# Altium footprint library JST BM05B-SRSS-TB.PCBLIB: 1 footprints
Each footprint in its own frame and in the unit in brackets; x right, y up, seen from the top. Pads: shape width x height; smd on the part's side, far side on the other; paste and mask are expansions set on the pad; w line width, h text height; cw(c..) or ccw(c..) is an arc to the next point about the centre after c.
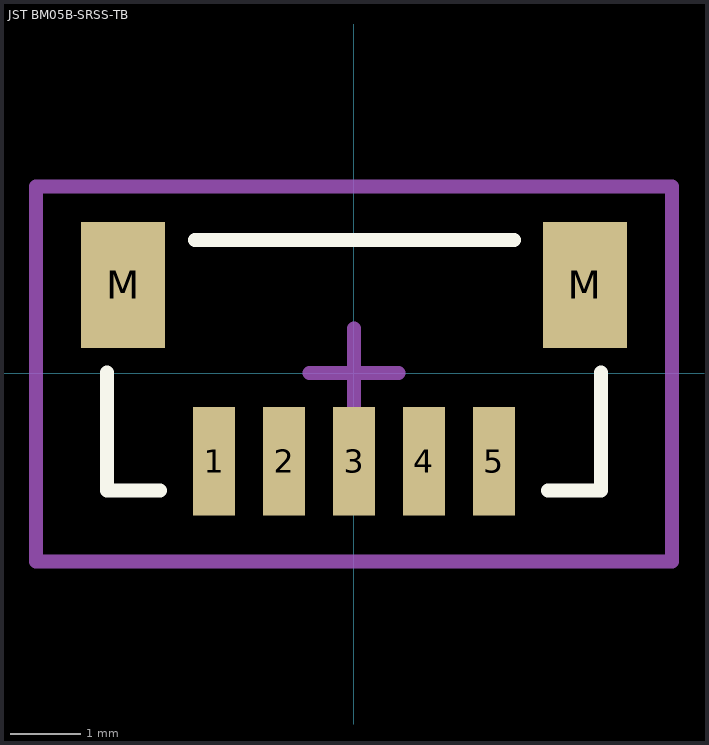
[diagram p0: the footprint, top view; thin cyan lines are the x and y axes]

## JST BM05B-SRSS-TB [mm] "1.0mm pitch/Disconnectable Crimp style connector"
height 2.95
pads (7):
  rect 0.6x1.55 smd: 1(-2,-1.262) 2(-1,-1.262) 3(0,-1.262) 4(1,-1.262) 5(2,-1.262)
  rect 1.2x1.8 smd: M(-3.3,1.262) M(3.3,1.262)
Top Overlay:
  lines w0.2: -3.532,0.008 -3.532,-1.676 -2.77,-1.676 ; -2.27,1.905 2.286,1.905 ; 2.77,-1.676 3.532,-1.676 3.532,0.008
Mechanical 15:
  lines w0.2: -0.635,0 0.635,0 ; 0,-0.635 0,0.635 ; -4.548,-2.692 4.548,-2.692 4.548,2.667 -4.548,2.667 -4.548,-2.692
3D body "JST BM05B-SRSS-TB.STEP": height 4.32, standoff 0, extent -3.5,-1.688 3.5,1.912